# EAGLE library part MAX9589 (library custom)
Video Amplifier Filter IC Quad Output
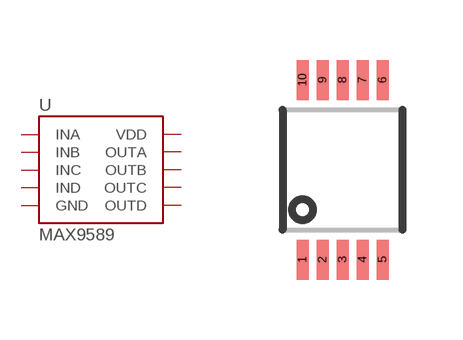
[diagram p57: symbol with the pads of 10-TSSOP; footprint 10-TSSOP]

Designator prefix U

## MAX9589  [10-TSSOP]
1  INA
2  INB
3  INC
4  IND
5  GND
6  OUTD
7  OUTC
8  OUTB
9  OUTA
10  VDD

## Footprint 10-TSSOP (pad centres in mm)
smd 0.3 x 1: 1 -1,-2.25; 2 -0.5,-2.25; 3 0,-2.25; 4 0.5,-2.25; 5 1,-2.25; 6 1,2.25; 7 0.5,2.25; 8 0,2.25; 9 -0.5,2.25; 10 -1,2.25